# Altium schematic symbol library CANSAT_ExtraLib.SchLib: 8 symbols
Pins are listed as number, name and electrical type; pins without a type are passive.

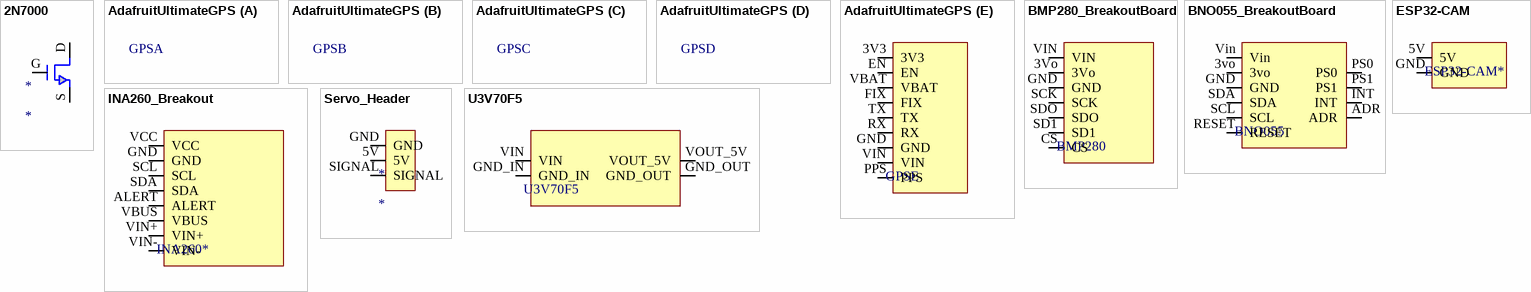
[diagram p0: symbols 2N7000 to U3V70F5]

## 2N7000
designator *
footprint 2N7000
pins: D, G, S

## AdafruitUltimateGPS
designator GPS, comment GPS  (value not drawn)
footprint AdafruitUltimateGPS
part E pins: 3V3, EN, FIX, GND, PPS, RX, TX, VBAT, VIN

## BMP280_BreakoutBoard
designator BMP280, comment BMP280  (value not drawn)
footprint BMP280_BreakoutBoard
pins: 3Vo, CS, GND, SCK, SD1, SDO, VIN

## BNO055_BreakoutBoard
designator BNO055, comment BNO055  (value not drawn)
footprint BNO055_BreakoutBoard
pins: 3vo, ADR, GND, INT, PS0, PS1, RESET, SCL, SDA, Vin

## ESP32-CAM
designator ESP32-CAM*, comment ESP32-CAM*  (value not drawn)
pins: 5V, GND

## INA260_Breakout
designator INA260*, comment INA260*  (value not drawn)
footprint INA260_Breakout (Voltage Sensor)
pins: ALERT, GND, SCL, SDA, VBUS, VCC, VIN+, VIN-

## Servo_Header
designator *
pins: 5V, GND, SIGNAL

## U3V70F5
designator U3V70F5  (value not drawn)
Boost Regulator: 5V
pins: GND_IN, GND_OUT, VIN, VOUT_5V